# Altium integrated library National Semiconductor ADC.IntLib: 538 symbols (part 19 of 19)
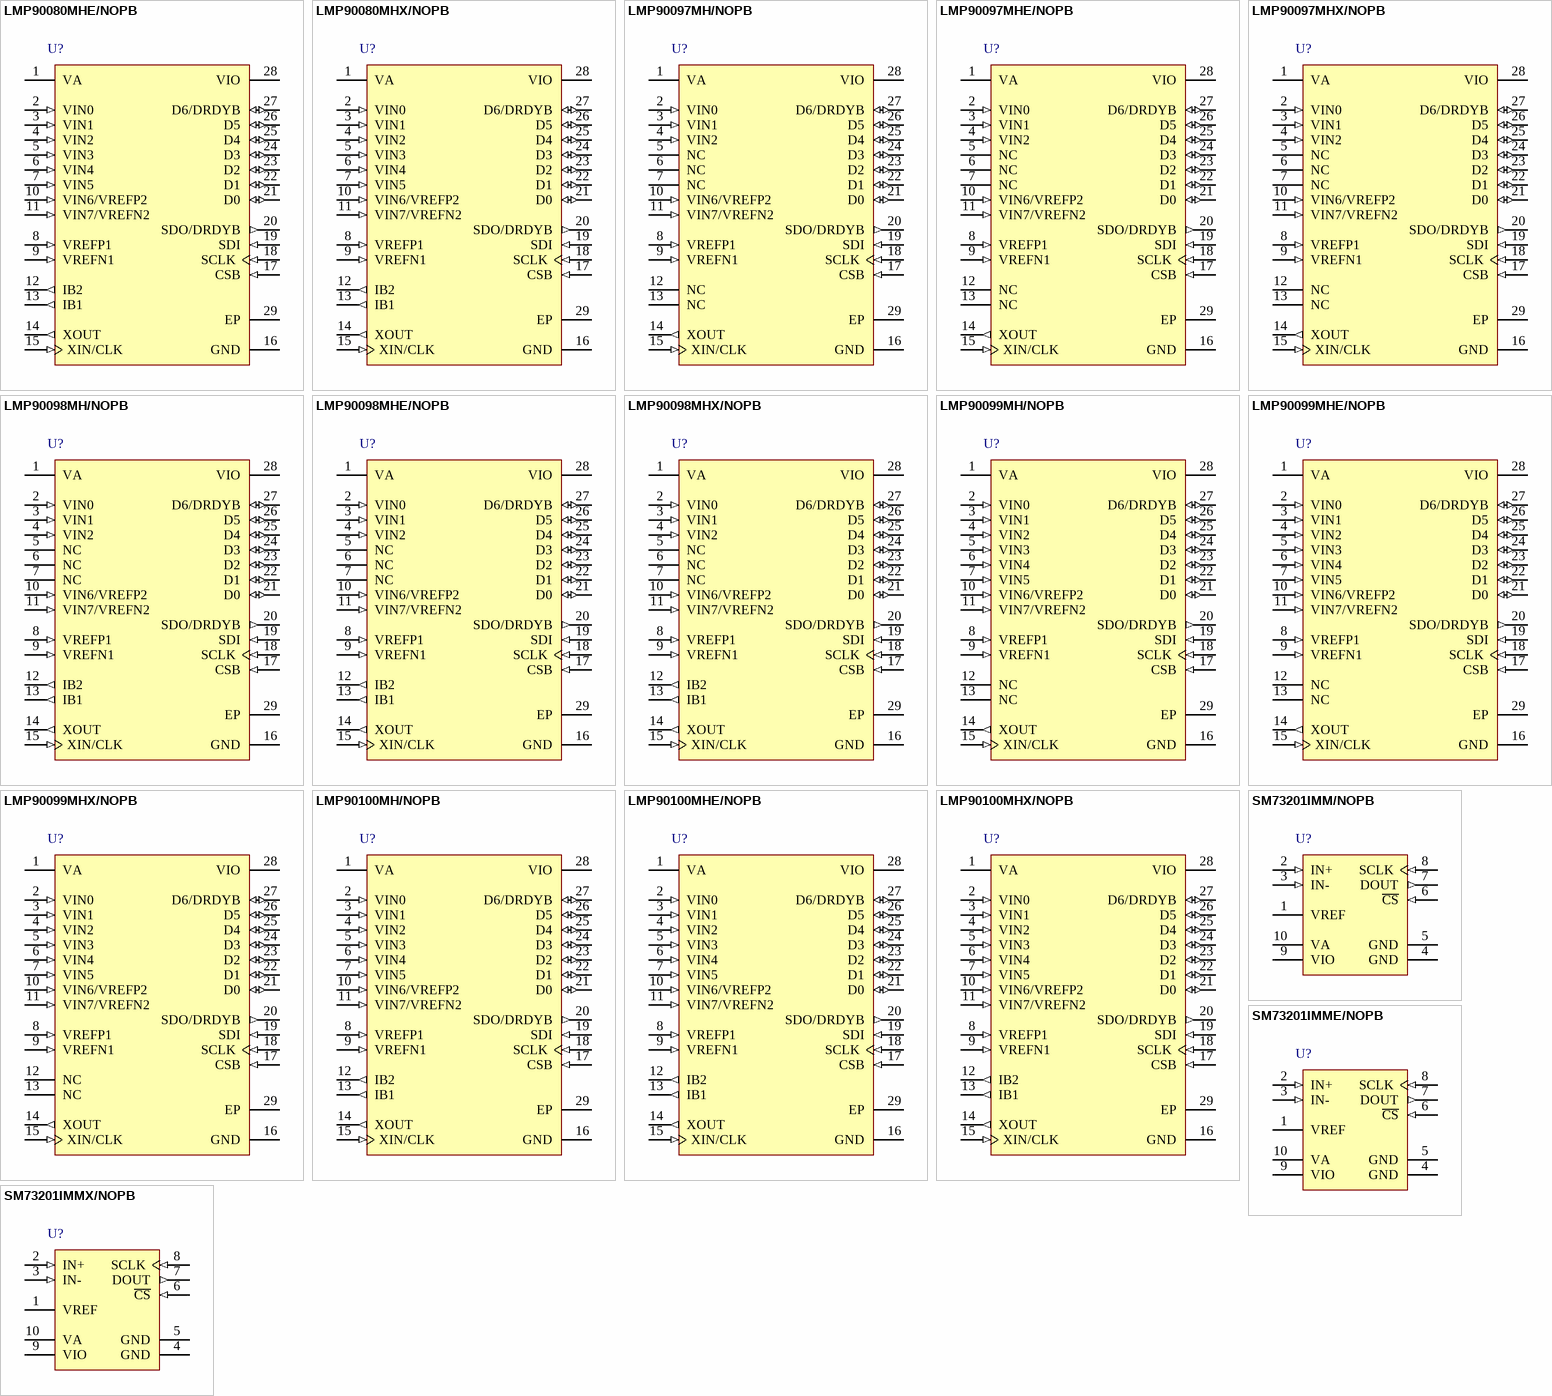
[diagram p63: symbols LMP90080MHE/NOPB to SM73201IMMX/NOPB]

## LMP90097MHX/NOPB
designator U?
Multi-Channel, Low Power 24-Bit Sensor AFE with True Continuous Background Calibration, 2-DIFF/4-SE inputs, 28-pin TSSOP-EP, 2500 Reel; PartNumber: LMP90097MHX/NOPB; Manufacturer: National Semiconductor; PackageTopMarking: NSUZXYTTE#*LMP90097*MH; PowerWise: N; CompType: ADC IC; DatasheetVersion: Jul-2011; PackageVersion: revD, Oct-2003; PackageReference: MXA28A; PackageDescription: Molded TSSOP, Jedec, 9.7 x 4.4 x 0.9mm Body, 28 Lead, 0.65mm Pitch, Exposed Pad; RoHS: Y; PinCount: 28; Code_JEDEC: MO-153-AET; ComponentLink1Description: LMP90097 Datasheet; ComponentLink1URL: http://www.national.com/ds/LM/LMP90097.pdf; ComponentLink2Description: LMP90097 Web Page; ComponentLink2URL: http://www.national.com/pf/LM/LMP90097.html; ComponentLink3Description: MXA28A Package Page; ComponentLink3URL: http://www.national.com/packaging/folders/mxa28a.html
footprint MXA28A_N (TSOP, 28-Leads, Body 9.7x4.4mm, Pitch 0.65mm, Thermal Pad, IPC Medium Density)
footprint MXA28A_L (TSOP, 28-Leads, Body 9.7x4.4mm, Pitch 0.65mm, Thermal Pad, IPC High Density)
footprint MXA28A_M (TSOP, 28-Leads, Body 9.7x4.4mm, Pitch 0.65mm, Thermal Pad, IPC Low Density)
pins: 1 VA (power), 2 VIN0 (in), 3 VIN1 (in), 4 VIN2 (in), 5 NC, 6 NC, 7 NC, 8 VREFP1 (in), 9 VREFN1 (in), 10 VIN6/VREFP2 (in), 11 VIN7/VREFN2 (in), 12 NC, 13 NC, 14 XOUT (out), 15 XIN/CLK (in), 16 GND (power), 17 CSB (in), 18 SCLK (in), 19 SDI (in), 20 SDO/DRDYB (out), 21 D0 (io), 22 D1 (io), 23 D2 (io), 24 D3 (io), 25 D4 (io), 26 D5 (io), 27 D6/DRDYB (io), 28 VIO (power), 29 EP (power)

## LMP90098MH/NOPB
designator U?
Multi-Channel, Low Power 24-Bit Sensor AFE with True Continuous Background Calibration, 2-DIFF/4-SE inputs, 28-pin TSSOP-EP, 48 Rail; PartNumber: LMP90098MH/NOPB; Manufacturer: National Semiconductor; PackageTopMarking: NSUZXYTTE#*LMP90098*MH; PowerWise: N; CompType: ADC IC; DatasheetVersion: Jul-2011; PackageVersion: revD, Oct-2003; PackageReference: MXA28A; PackageDescription: Molded TSSOP, Jedec, 9.7 x 4.4 x 0.9mm Body, 28 Lead, 0.65mm Pitch, Exposed Pad; RoHS: Y; PinCount: 28; Code_JEDEC: MO-153-AET; ComponentLink1Description: LMP90098 Datasheet; ComponentLink1URL: http://www.national.com/ds/LM/LMP90098.pdf; ComponentLink2Description: LMP90098 Web Page; ComponentLink2URL: http://www.national.com/pf/LM/LMP90098.html; ComponentLink3Description: MXA28A Package Page; ComponentLink3URL: http://www.national.com/packaging/folders/mxa28a.html
footprint MXA28A_N (TSOP, 28-Leads, Body 9.7x4.4mm, Pitch 0.65mm, Thermal Pad, IPC Medium Density)
footprint MXA28A_L (TSOP, 28-Leads, Body 9.7x4.4mm, Pitch 0.65mm, Thermal Pad, IPC High Density)
footprint MXA28A_M (TSOP, 28-Leads, Body 9.7x4.4mm, Pitch 0.65mm, Thermal Pad, IPC Low Density)
pins: 1 VA (power), 2 VIN0 (in), 3 VIN1 (in), 4 VIN2 (in), 5 NC, 6 NC, 7 NC, 8 VREFP1 (in), 9 VREFN1 (in), 10 VIN6/VREFP2 (in), 11 VIN7/VREFN2 (in), 12 IB2 (out), 13 IB1 (out), 14 XOUT (out), 15 XIN/CLK (in), 16 GND (power), 17 CSB (in), 18 SCLK (in), 19 SDI (in), 20 SDO/DRDYB (out), 21 D0 (io), 22 D1 (io), 23 D2 (io), 24 D3 (io), 25 D4 (io), 26 D5 (io), 27 D6/DRDYB (io), 28 VIO (power), 29 EP (power)

## LMP90098MHE/NOPB
designator U?
Multi-Channel, Low Power 24-Bit Sensor AFE with True Continuous Background Calibration, 2-DIFF/4-SE inputs, 28-pin TSSOP-EP, 250 Reel; PartNumber: LMP90098MHE/NOPB; Manufacturer: National Semiconductor; PackageTopMarking: NSUZXYTTE#*LMP90098*MH; PowerWise: N; CompType: ADC IC; DatasheetVersion: Jul-2011; PackageVersion: revD, Oct-2003; PackageReference: MXA28A; PackageDescription: Molded TSSOP, Jedec, 9.7 x 4.4 x 0.9mm Body, 28 Lead, 0.65mm Pitch, Exposed Pad; RoHS: Y; PinCount: 28; Code_JEDEC: MO-153-AET; ComponentLink1Description: LMP90098 Datasheet; ComponentLink1URL: http://www.national.com/ds/LM/LMP90098.pdf; ComponentLink2Description: LMP90098 Web Page; ComponentLink2URL: http://www.national.com/pf/LM/LMP90098.html; ComponentLink3Description: MXA28A Package Page; ComponentLink3URL: http://www.national.com/packaging/folders/mxa28a.html
footprint MXA28A_N (TSOP, 28-Leads, Body 9.7x4.4mm, Pitch 0.65mm, Thermal Pad, IPC Medium Density)
footprint MXA28A_L (TSOP, 28-Leads, Body 9.7x4.4mm, Pitch 0.65mm, Thermal Pad, IPC High Density)
footprint MXA28A_M (TSOP, 28-Leads, Body 9.7x4.4mm, Pitch 0.65mm, Thermal Pad, IPC Low Density)
pins: 1 VA (power), 2 VIN0 (in), 3 VIN1 (in), 4 VIN2 (in), 5 NC, 6 NC, 7 NC, 8 VREFP1 (in), 9 VREFN1 (in), 10 VIN6/VREFP2 (in), 11 VIN7/VREFN2 (in), 12 IB2 (out), 13 IB1 (out), 14 XOUT (out), 15 XIN/CLK (in), 16 GND (power), 17 CSB (in), 18 SCLK (in), 19 SDI (in), 20 SDO/DRDYB (out), 21 D0 (io), 22 D1 (io), 23 D2 (io), 24 D3 (io), 25 D4 (io), 26 D5 (io), 27 D6/DRDYB (io), 28 VIO (power), 29 EP (power)

## LMP90098MHX/NOPB
designator U?
Multi-Channel, Low Power 24-Bit Sensor AFE with True Continuous Background Calibration, 2-DIFF/4-SE inputs, 28-pin TSSOP-EP, 2500 Reel; PartNumber: LMP90098MHX/NOPB; Manufacturer: National Semiconductor; PackageTopMarking: NSUZXYTTE#*LMP90098*MH; PowerWise: N; CompType: ADC IC; DatasheetVersion: Jul-2011; PackageVersion: revD, Oct-2003; PackageReference: MXA28A; PackageDescription: Molded TSSOP, Jedec, 9.7 x 4.4 x 0.9mm Body, 28 Lead, 0.65mm Pitch, Exposed Pad; RoHS: Y; PinCount: 28; Code_JEDEC: MO-153-AET; ComponentLink1Description: LMP90098 Datasheet; ComponentLink1URL: http://www.national.com/ds/LM/LMP90098.pdf; ComponentLink2Description: LMP90098 Web Page; ComponentLink2URL: http://www.national.com/pf/LM/LMP90098.html; ComponentLink3Description: MXA28A Package Page; ComponentLink3URL: http://www.national.com/packaging/folders/mxa28a.html
footprint MXA28A_N (TSOP, 28-Leads, Body 9.7x4.4mm, Pitch 0.65mm, Thermal Pad, IPC Medium Density)
footprint MXA28A_L (TSOP, 28-Leads, Body 9.7x4.4mm, Pitch 0.65mm, Thermal Pad, IPC High Density)
footprint MXA28A_M (TSOP, 28-Leads, Body 9.7x4.4mm, Pitch 0.65mm, Thermal Pad, IPC Low Density)
pins: 1 VA (power), 2 VIN0 (in), 3 VIN1 (in), 4 VIN2 (in), 5 NC, 6 NC, 7 NC, 8 VREFP1 (in), 9 VREFN1 (in), 10 VIN6/VREFP2 (in), 11 VIN7/VREFN2 (in), 12 IB2 (out), 13 IB1 (out), 14 XOUT (out), 15 XIN/CLK (in), 16 GND (power), 17 CSB (in), 18 SCLK (in), 19 SDI (in), 20 SDO/DRDYB (out), 21 D0 (io), 22 D1 (io), 23 D2 (io), 24 D3 (io), 25 D4 (io), 26 D5 (io), 27 D6/DRDYB (io), 28 VIO (power), 29 EP (power)

## LMP90099MH/NOPB
designator U?
Multi-Channel, Low Power 24-Bit Sensor AFE with True Continuous Background Calibration, 4-DIFF/7-SE inputs, 28-pin TSSOP-EP, 48 Rail; PartNumber: LMP90099MH/NOPB; Manufacturer: National Semiconductor; PackageTopMarking: NSUZXYTTE#*LMP90099*MH; PowerWise: N; CompType: ADC IC; DatasheetVersion: Jul-2011; PackageVersion: revD, Oct-2003; PackageReference: MXA28A; PackageDescription: Molded TSSOP, Jedec, 9.7 x 4.4 x 0.9mm Body, 28 Lead, 0.65mm Pitch, Exposed Pad; RoHS: Y; PinCount: 28; Code_JEDEC: MO-153-AET; ComponentLink1Description: LMP90099 Datasheet; ComponentLink1URL: http://www.national.com/ds/LM/LMP90099.pdf; ComponentLink2Description: LMP90099 Web Page; ComponentLink2URL: http://www.national.com/pf/LM/LMP90099.html; ComponentLink3Description: MXA28A Package Page; ComponentLink3URL: http://www.national.com/packaging/folders/mxa28a.html
footprint MXA28A_N (TSOP, 28-Leads, Body 9.7x4.4mm, Pitch 0.65mm, Thermal Pad, IPC Medium Density)
footprint MXA28A_L (TSOP, 28-Leads, Body 9.7x4.4mm, Pitch 0.65mm, Thermal Pad, IPC High Density)
footprint MXA28A_M (TSOP, 28-Leads, Body 9.7x4.4mm, Pitch 0.65mm, Thermal Pad, IPC Low Density)
pins: 1 VA (power), 2 VIN0 (in), 3 VIN1 (in), 4 VIN2 (in), 5 VIN3 (in), 6 VIN4 (in), 7 VIN5 (in), 8 VREFP1 (in), 9 VREFN1 (in), 10 VIN6/VREFP2 (in), 11 VIN7/VREFN2 (in), 12 NC, 13 NC, 14 XOUT (out), 15 XIN/CLK (in), 16 GND (power), 17 CSB (in), 18 SCLK (in), 19 SDI (in), 20 SDO/DRDYB (out), 21 D0 (io), 22 D1 (io), 23 D2 (io), 24 D3 (io), 25 D4 (io), 26 D5 (io), 27 D6/DRDYB (io), 28 VIO (power), 29 EP (power)

## LMP90099MHE/NOPB
designator U?
Multi-Channel, Low Power 24-Bit Sensor AFE with True Continuous Background Calibration, 4-DIFF/7-SE inputs, 28-pin TSSOP-EP, 250 Reel; PartNumber: LMP90099MHE/NOPB; Manufacturer: National Semiconductor; PackageTopMarking: NSUZXYTTE#*LMP90099*MH; PowerWise: N; CompType: ADC IC; DatasheetVersion: Jul-2011; PackageVersion: revD, Oct-2003; PackageReference: MXA28A; PackageDescription: Molded TSSOP, Jedec, 9.7 x 4.4 x 0.9mm Body, 28 Lead, 0.65mm Pitch, Exposed Pad; RoHS: Y; PinCount: 28; Code_JEDEC: MO-153-AET; ComponentLink1Description: LMP90099 Datasheet; ComponentLink1URL: http://www.national.com/ds/LM/LMP90099.pdf; ComponentLink2Description: LMP90099 Web Page; ComponentLink2URL: http://www.national.com/pf/LM/LMP90099.html; ComponentLink3Description: MXA28A Package Page; ComponentLink3URL: http://www.national.com/packaging/folders/mxa28a.html
footprint MXA28A_N (TSOP, 28-Leads, Body 9.7x4.4mm, Pitch 0.65mm, Thermal Pad, IPC Medium Density)
footprint MXA28A_L (TSOP, 28-Leads, Body 9.7x4.4mm, Pitch 0.65mm, Thermal Pad, IPC High Density)
footprint MXA28A_M (TSOP, 28-Leads, Body 9.7x4.4mm, Pitch 0.65mm, Thermal Pad, IPC Low Density)
pins: 1 VA (power), 2 VIN0 (in), 3 VIN1 (in), 4 VIN2 (in), 5 VIN3 (in), 6 VIN4 (in), 7 VIN5 (in), 8 VREFP1 (in), 9 VREFN1 (in), 10 VIN6/VREFP2 (in), 11 VIN7/VREFN2 (in), 12 NC, 13 NC, 14 XOUT (out), 15 XIN/CLK (in), 16 GND (power), 17 CSB (in), 18 SCLK (in), 19 SDI (in), 20 SDO/DRDYB (out), 21 D0 (io), 22 D1 (io), 23 D2 (io), 24 D3 (io), 25 D4 (io), 26 D5 (io), 27 D6/DRDYB (io), 28 VIO (power), 29 EP (power)

## LMP90099MHX/NOPB
designator U?
Multi-Channel, Low Power 24-Bit Sensor AFE with True Continuous Background Calibration, 4-DIFF/7-SE inputs, 28-pin TSSOP-EP, 2500 Reel; PartNumber: LMP90099MHX/NOPB; Manufacturer: National Semiconductor; PackageTopMarking: NSUZXYTTE#*LMP90099*MH; PowerWise: N; CompType: ADC IC; DatasheetVersion: Jul-2011; PackageVersion: revD, Oct-2003; PackageReference: MXA28A; PackageDescription: Molded TSSOP, Jedec, 9.7 x 4.4 x 0.9mm Body, 28 Lead, 0.65mm Pitch, Exposed Pad; RoHS: Y; PinCount: 28; Code_JEDEC: MO-153-AET; ComponentLink1Description: LMP90099 Datasheet; ComponentLink1URL: http://www.national.com/ds/LM/LMP90099.pdf; ComponentLink2Description: LMP90099 Web Page; ComponentLink2URL: http://www.national.com/pf/LM/LMP90099.html; ComponentLink3Description: MXA28A Package Page; ComponentLink3URL: http://www.national.com/packaging/folders/mxa28a.html
footprint MXA28A_N (TSOP, 28-Leads, Body 9.7x4.4mm, Pitch 0.65mm, Thermal Pad, IPC Medium Density)
footprint MXA28A_L (TSOP, 28-Leads, Body 9.7x4.4mm, Pitch 0.65mm, Thermal Pad, IPC High Density)
footprint MXA28A_M (TSOP, 28-Leads, Body 9.7x4.4mm, Pitch 0.65mm, Thermal Pad, IPC Low Density)
pins: 1 VA (power), 2 VIN0 (in), 3 VIN1 (in), 4 VIN2 (in), 5 VIN3 (in), 6 VIN4 (in), 7 VIN5 (in), 8 VREFP1 (in), 9 VREFN1 (in), 10 VIN6/VREFP2 (in), 11 VIN7/VREFN2 (in), 12 NC, 13 NC, 14 XOUT (out), 15 XIN/CLK (in), 16 GND (power), 17 CSB (in), 18 SCLK (in), 19 SDI (in), 20 SDO/DRDYB (out), 21 D0 (io), 22 D1 (io), 23 D2 (io), 24 D3 (io), 25 D4 (io), 26 D5 (io), 27 D6/DRDYB (io), 28 VIO (power), 29 EP (power)

## LMP90100MH/NOPB
designator U?
Multi-Channel, Low Power 24-Bit Sensor AFE with True Continuous Background Calibration, 4-DIFF/7-SE inputs, 28-pin TSSOP-EP, 48 Rail; PartNumber: LMP90100MH/NOPB; Manufacturer: National Semiconductor; PackageTopMarking: NSUZXYTTE#*LMP90100*MH; PowerWise: N; CompType: ADC IC; DatasheetVersion: Jul-2011; PackageVersion: revD, Oct-2003; PackageReference: MXA28A; PackageDescription: Molded TSSOP, Jedec, 9.7 x 4.4 x 0.9mm Body, 28 Lead, 0.65mm Pitch, Exposed Pad; RoHS: Y; PinCount: 28; Code_JEDEC: MO-153-AET; ComponentLink1Description: LMP90100 Datasheet; ComponentLink1URL: http://www.national.com/ds/LM/LMP90097.pdf; ComponentLink2Description: LMP90100 Web Page; ComponentLink2URL: http://www.national.com/pf/LM/LMP90100.html; ComponentLink3Description: MXA28A Package Page; ComponentLink3URL: http://www.national.com/packaging/folders/mxa28a.html
footprint MXA28A_N (TSOP, 28-Leads, Body 9.7x4.4mm, Pitch 0.65mm, Thermal Pad, IPC Medium Density)
footprint MXA28A_L (TSOP, 28-Leads, Body 9.7x4.4mm, Pitch 0.65mm, Thermal Pad, IPC High Density)
footprint MXA28A_M (TSOP, 28-Leads, Body 9.7x4.4mm, Pitch 0.65mm, Thermal Pad, IPC Low Density)
pins: 1 VA (power), 2 VIN0 (in), 3 VIN1 (in), 4 VIN2 (in), 5 VIN3 (in), 6 VIN4 (in), 7 VIN5 (in), 8 VREFP1 (in), 9 VREFN1 (in), 10 VIN6/VREFP2 (in), 11 VIN7/VREFN2 (in), 12 IB2 (out), 13 IB1 (out), 14 XOUT (out), 15 XIN/CLK (in), 16 GND (power), 17 CSB (in), 18 SCLK (in), 19 SDI (in), 20 SDO/DRDYB (out), 21 D0 (io), 22 D1 (io), 23 D2 (io), 24 D3 (io), 25 D4 (io), 26 D5 (io), 27 D6/DRDYB (io), 28 VIO (power), 29 EP (power)

## LMP90100MHE/NOPB
designator U?
Multi-Channel, Low Power 24-Bit Sensor AFE with True Continuous Background Calibration, 4-DIFF/7-SE inputs, 28-pin TSSOP-EP, 250 Reel; PartNumber: LMP90100MHE/NOPB; Manufacturer: National Semiconductor; PackageTopMarking: NSUZXYTTE#*LMP90100*MH; PowerWise: N; CompType: ADC IC; DatasheetVersion: Jul-2011; PackageVersion: revD, Oct-2003; PackageReference: MXA28A; PackageDescription: Molded TSSOP, Jedec, 9.7 x 4.4 x 0.9mm Body, 28 Lead, 0.65mm Pitch, Exposed Pad; RoHS: Y; PinCount: 28; Code_JEDEC: MO-153-AET; ComponentLink1Description: LMP90100 Datasheet; ComponentLink1URL: http://www.national.com/ds/LM/LMP90097.pdf; ComponentLink2Description: LMP90100 Web Page; ComponentLink2URL: http://www.national.com/pf/LM/LMP90100.html; ComponentLink3Description: MXA28A Package Page; ComponentLink3URL: http://www.national.com/packaging/folders/mxa28a.html
footprint MXA28A_N (TSOP, 28-Leads, Body 9.7x4.4mm, Pitch 0.65mm, Thermal Pad, IPC Medium Density)
footprint MXA28A_L (TSOP, 28-Leads, Body 9.7x4.4mm, Pitch 0.65mm, Thermal Pad, IPC High Density)
footprint MXA28A_M (TSOP, 28-Leads, Body 9.7x4.4mm, Pitch 0.65mm, Thermal Pad, IPC Low Density)
pins: 1 VA (power), 2 VIN0 (in), 3 VIN1 (in), 4 VIN2 (in), 5 VIN3 (in), 6 VIN4 (in), 7 VIN5 (in), 8 VREFP1 (in), 9 VREFN1 (in), 10 VIN6/VREFP2 (in), 11 VIN7/VREFN2 (in), 12 IB2 (out), 13 IB1 (out), 14 XOUT (out), 15 XIN/CLK (in), 16 GND (power), 17 CSB (in), 18 SCLK (in), 19 SDI (in), 20 SDO/DRDYB (out), 21 D0 (io), 22 D1 (io), 23 D2 (io), 24 D3 (io), 25 D4 (io), 26 D5 (io), 27 D6/DRDYB (io), 28 VIO (power), 29 EP (power)

## LMP90100MHX/NOPB
designator U?
Multi-Channel, Low Power 24-Bit Sensor AFE with True Continuous Background Calibration, 4-DIFF/7-SE inputs, 28-pin TSSOP-EP, 2500 Reel; PartNumber: LMP90100MHX/NOPB; Manufacturer: National Semiconductor; PackageTopMarking: NSUZXYTTE#*LMP90100*MH; PowerWise: N; CompType: ADC IC; DatasheetVersion: Jul-2011; PackageVersion: revD, Oct-2003; PackageReference: MXA28A; PackageDescription: Molded TSSOP, Jedec, 9.7 x 4.4 x 0.9mm Body, 28 Lead, 0.65mm Pitch, Exposed Pad; RoHS: Y; PinCount: 28; Code_JEDEC: MO-153-AET; ComponentLink1Description: LMP90100 Datasheet; ComponentLink1URL: http://www.national.com/ds/LM/LMP90097.pdf; ComponentLink2Description: LMP90100 Web Page; ComponentLink2URL: http://www.national.com/pf/LM/LMP90100.html; ComponentLink3Description: MXA28A Package Page; ComponentLink3URL: http://www.national.com/packaging/folders/mxa28a.html
footprint MXA28A_N (TSOP, 28-Leads, Body 9.7x4.4mm, Pitch 0.65mm, Thermal Pad, IPC Medium Density)
footprint MXA28A_L (TSOP, 28-Leads, Body 9.7x4.4mm, Pitch 0.65mm, Thermal Pad, IPC High Density)
footprint MXA28A_M (TSOP, 28-Leads, Body 9.7x4.4mm, Pitch 0.65mm, Thermal Pad, IPC Low Density)
pins: 1 VA (power), 2 VIN0 (in), 3 VIN1 (in), 4 VIN2 (in), 5 VIN3 (in), 6 VIN4 (in), 7 VIN5 (in), 8 VREFP1 (in), 9 VREFN1 (in), 10 VIN6/VREFP2 (in), 11 VIN7/VREFN2 (in), 12 IB2 (out), 13 IB1 (out), 14 XOUT (out), 15 XIN/CLK (in), 16 GND (power), 17 CSB (in), 18 SCLK (in), 19 SDI (in), 20 SDO/DRDYB (out), 21 D0 (io), 22 D1 (io), 23 D2 (io), 24 D3 (io), 25 D4 (io), 26 D5 (io), 27 D6/DRDYB (io), 28 VIO (power), 29 EP (power)

## SM73201IMM/NOPB
designator U?
16-Bit, 50 to 250 kSPS, Differential Input, MicroPower ADC, 10-pin Mini SOIC, 1000 Reel; PartNumber: SM73201IMM/NOPB; Manufacturer: National Semiconductor; PackageTopMarking: ZXTT*S201; PowerWise: N; CompType: ADC IC; DatasheetVersion: Jun-2011; PackageVersion: revB, Jul-2003; PackageReference: MUB10A; PackageDescription: Mini-SO, Molded, .118 x .118 x .034in Body, 10 Lead, .0197in Pitch; RoHS: Y; PinCount: 10; Code_JEDEC: MO-187-BA; ComponentLink1Description: SM73201 Datasheet; ComponentLink1URL: http://www.national.com/ds/SM/SM73201.pdf; ComponentLink2Description: SM73201 Web Page; ComponentLink2URL: http://www.national.com/pf/SM/SM73201.html; ComponentLink3Description: MUB10A Package Page; ComponentLink3URL: http://www.national.com/packaging/folders/mub10a.html
footprint MUB10A_N (TSSOP, 10-Leads, Body 3x3mm, Pitch 0.5mm, IPC Medium Density)
footprint MUB10A_L (TSSOP, 10-Leads, Body 3x3mm, Pitch 0.5mm, IPC High Density)
footprint MUB10A_M (TSSOP, 10-Leads, Body 3x3mm, Pitch 0.5mm, IPC Low Density)
pins: 1 VREF (power), 2 IN+ (in), 3 IN- (in), 4 GND (power), 5 GND (power), 6 ~{CS} (in), 7 DOUT (out), 8 SCLK (in), 9 VIO (power), 10 VA (power)

## SM73201IMME/NOPB
designator U?
16-Bit, 50 to 250 kSPS, Differential Input, MicroPower ADC, 10-pin Mini SOIC, 250 Reel; PartNumber: SM73201IMME/NOPB; Manufacturer: National Semiconductor; PackageTopMarking: ZXTT*S201; PowerWise: N; CompType: ADC IC; DatasheetVersion: Jun-2011; PackageVersion: revB, Jul-2003; PackageReference: MUB10A; PackageDescription: Mini-SO, Molded, .118 x .118 x .034in Body, 10 Lead, .0197in Pitch; RoHS: Y; PinCount: 10; Code_JEDEC: MO-187-BA; ComponentLink1Description: SM73201 Datasheet; ComponentLink1URL: http://www.national.com/ds/SM/SM73201.pdf; ComponentLink2Description: SM73201 Web Page; ComponentLink2URL: http://www.national.com/pf/SM/SM73201.html; ComponentLink3Description: MUB10A Package Page; ComponentLink3URL: http://www.national.com/packaging/folders/mub10a.html
footprint MUB10A_N (TSSOP, 10-Leads, Body 3x3mm, Pitch 0.5mm, IPC Medium Density)
footprint MUB10A_L (TSSOP, 10-Leads, Body 3x3mm, Pitch 0.5mm, IPC High Density)
footprint MUB10A_M (TSSOP, 10-Leads, Body 3x3mm, Pitch 0.5mm, IPC Low Density)
pins: 1 VREF (power), 2 IN+ (in), 3 IN- (in), 4 GND (power), 5 GND (power), 6 ~{CS} (in), 7 DOUT (out), 8 SCLK (in), 9 VIO (power), 10 VA (power)

## SM73201IMMX/NOPB
designator U?
16-Bit, 50 to 250 kSPS, Differential Input, MicroPower ADC, 10-pin Mini SOIC, 3500 Reel; PartNumber: SM73201IMMX/NOPB; Manufacturer: National Semiconductor; PackageTopMarking: ZXTT*S201; PowerWise: N; CompType: ADC IC; DatasheetVersion: Jun-2011; PackageVersion: revB, Jul-2003; PackageReference: MUB10A; PackageDescription: Mini-SO, Molded, .118 x .118 x .034in Body, 10 Lead, .0197in Pitch; RoHS: Y; PinCount: 10; Code_JEDEC: MO-187-BA; ComponentLink1Description: SM73201 Datasheet; ComponentLink1URL: http://www.national.com/ds/SM/SM73201.pdf; ComponentLink2Description: SM73201 Web Page; ComponentLink2URL: http://www.national.com/pf/SM/SM73201.html; ComponentLink3Description: MUB10A Package Page; ComponentLink3URL: http://www.national.com/packaging/folders/mub10a.html
footprint MUB10A_N (TSSOP, 10-Leads, Body 3x3mm, Pitch 0.5mm, IPC Medium Density)
footprint MUB10A_L (TSSOP, 10-Leads, Body 3x3mm, Pitch 0.5mm, IPC High Density)
footprint MUB10A_M (TSSOP, 10-Leads, Body 3x3mm, Pitch 0.5mm, IPC Low Density)
pins: 1 VREF (power), 2 IN+ (in), 3 IN- (in), 4 GND (power), 5 GND (power), 6 ~{CS} (in), 7 DOUT (out), 8 SCLK (in), 9 VIO (power), 10 VA (power)